# EAGLE library part LM359 (library OTAs)
Dual ultrafast Norton amplifier with compensation and gain setting User programmable gain, slew rate, bias current and power dissipation 400MHz GBW at AV = 10 to 100 30 MHz GBW at AV = 30 Operates from a single supply Available from Texas Instruments. Datasheet: http://www.ti.com/lit/ds/symlink/lm359.pdf
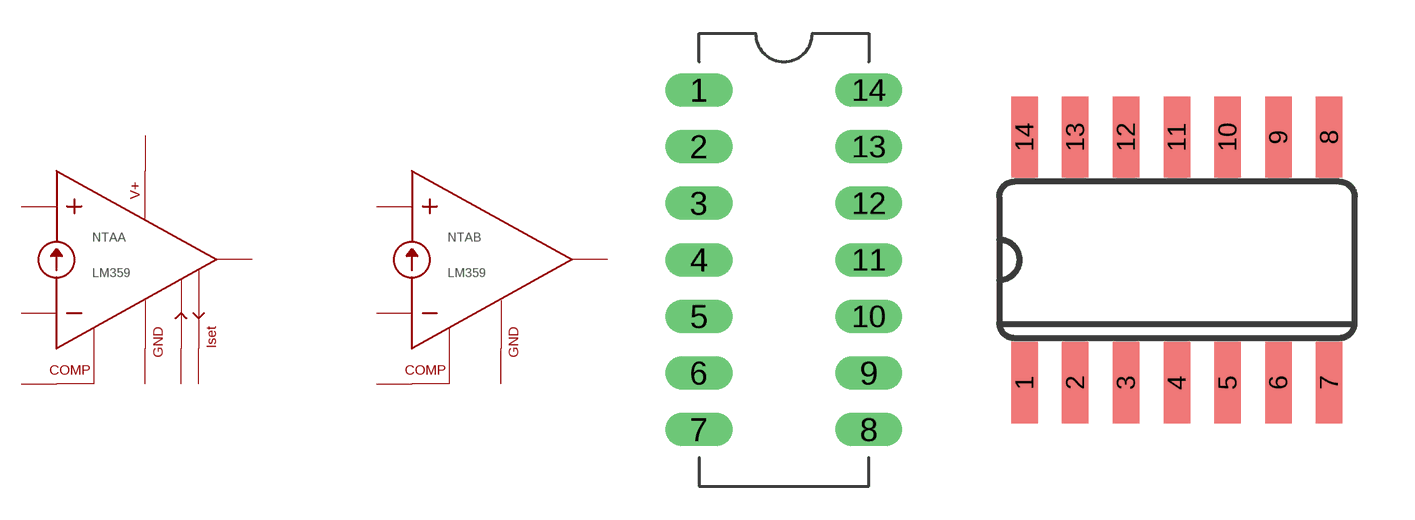
[diagram p9: symbol with the pads of DIP14; footprints DIP14, SO14]

Designator prefix NTA; gates A=NORTON-COMP B=NORTON-COMP SHARED=NORTON-COMP-POW

## LM359N  [DIP14]
1  SHARED:ISETOUT
2  A:OUT
3  A:CMP
4  A:GND
6  A:IN-
7  A:IN+
8  SHARED:ISETIN
9  B:IN+
10  B:IN-
11  B:GND
12  SHARED:VCC
13  B:CMP
14  B:OUT

## LM359M  [SO14]
Pads as for DIP14

## Footprint DIP14 (pad centres in mm)
drill 1 long: 1 -3.81,6.35; 2 -3.81,3.81; 3 -3.81,1.27; 4 -3.81,-1.27; 5 -3.81,-3.81; 6 -3.81,-6.35; 7 -3.81,-8.89; 8 3.81,-8.89; 9 3.81,-6.35; 10 3.81,-3.81; 11 3.81,-1.27; 12 3.81,1.27; 13 3.81,3.81; 14 3.81,6.35

## Footprint SO14 (pad centres in mm)
Small Outline package 150 mil
smd 0.66 x 2.032: 1 -3.81,-3.073; 2 -2.54,-3.073; 3 -1.27,-3.073; 4 0,-3.073; 5 1.27,-3.073; 6 2.54,-3.073; 7 3.81,-3.073; 8 3.81,3.073; 9 2.54,3.073; 10 1.27,3.073; 11 0,3.073; 12 -1.27,3.073; 13 -2.54,3.073; 14 -3.81,3.073